# EAGLE library part MIC826RYMT (library IoTMakers)
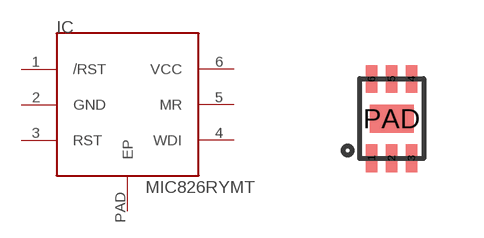
[diagram p17: symbol with the pads of DFN-6; footprint DFN-6]

Designator prefix IC

## MIC826RYMT  [DFN-6]
1  /RST
2  GND
3  RST
4  WDI
5  MR
6  VCC
PAD  EP

## Footprint DFN-6 (pad centres in mm)
smd 0.28 x 0.7: 1 -0.5,-0.988; 2 0,-0.988; 3 0.5,-0.988; 4 0.5,0.988; 5 0,0.988; 6 -0.5,0.988
smd 1.1 x 0.7: PAD 0,0